# Altium schematic symbol library DVR8837.SchLib: 1 symbol
Pins are listed as number, name and electrical type; pins without a type are passive.

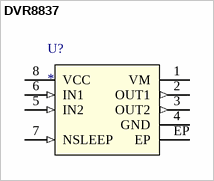
[diagram p0: symbol DVR8837]

## DVR8837
designator U?
DRV883x Low-Voltage H-Bridge Driver
pins: 1 VM (power), 2 OUT1 (out), 3 OUT2 (out), 4 GND (power), 5 IN2 (in), 6 IN1 (in), 7 NSLEEP (in), 8 VCC (power), EP (power)